# Altium footprint library PCB - DIODES - SOD523F.PCBLIB: 1 footprints
Each footprint in its own frame and in the unit in brackets; x right, y up, seen from the top. Pads: shape width x height; smd on the part's side, far side on the other; paste and mask are expansions set on the pad; w line width, h text height; cw(c..) or ccw(c..) is an arc to the next point about the centre after c.
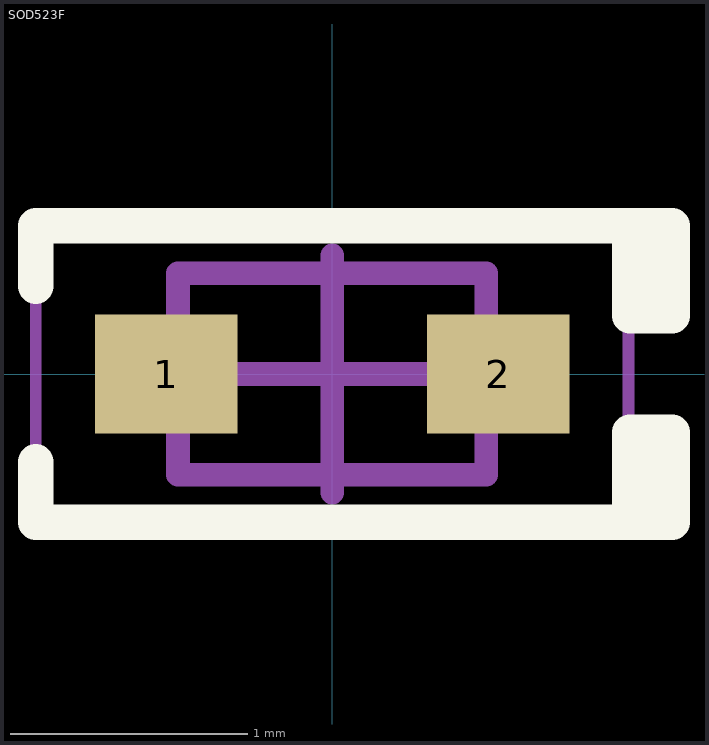
[diagram p0: the footprint, top view; thin cyan lines are the x and y axes]

## SOD523F [mm] "SODFL, 2-Leads, Body 0.80x1.60mm, IPC Medium Density"
height 0.77
pads (2):
  rect 0.6x0.5 smd mask+0.07: 1(-0.7,0) 2(0.7,0)
Top Overlay:
  rectangle: 1.256,-0.625 1.434,-0.245
  rectangle: 1.256,0.245 1.434,0.625
  lines w0.15: -1.25,-0.371 -1.25,-0.625 1.307,-0.625 ; -1.25,0.371 -1.25,0.625 1.307,0.625 ; 1.256,-0.625 1.256,-0.245 1.434,-0.245 1.434,-0.625 1.256,-0.625 ; 1.256,0.245 1.256,0.625 1.434,0.625 1.434,0.245 1.256,0.245
Mechanical 13:
  lines w0.1: -0.65,-0.425 0.65,-0.425 0.65,0.425 -0.65,0.425 -0.65,-0.425
Mechanical 15:
  lines w0.05: -1.25,-0.6 1.25,-0.6 1.25,0.6 -1.25,0.6 -1.25,-0.6
  lines w0.1: -0.4,0 0.6,0 ; 0,-0.5 0,0.5
3D body "SOD523F.STEP": height 0.65, standoff 0, extent -0.8,-0.4 0.8,0.4